# Altium schematic symbol library MAX.SchLib: 1 symbol
Pins are listed as number, name and electrical type; pins without a type are passive.

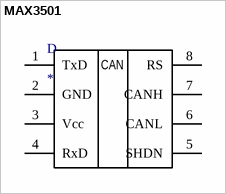
[diagram p0: symbol MAX3501]

## MAX3501
designator D
footprint SOT23, 8L .EPS
pins: 1 TxD, 2 GND, 3 Vcc, 4 RxD, 5 SHDN, 6 CANL, 7 CANH, 8 RS
text: CAN